# Altium schematic symbol library LQP03TN47NH02D.SchLib: 1 symbol
Pins are listed as number, name and electrical type; pins without a type are passive.

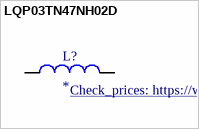
[diagram p0: symbol LQP03TN47NH02D]

## LQP03TN47NH02D
designator L?
Inductor with Inductance: 47nH Tol. +/-3%, Package: 0201 (0603); MP: LQP03TN47NH02D; MF: Murata; Purchase-URL: https://pricing.snapeda.com/search/part/LQP03TN47NH02D/?ref=eda; Package: 0603 Murata; SnapEDA_Link: https://www.snapeda.com/parts/LQP03TN47NH02D/Murata%20Electronics%20North%20America/view-part/1506104/?ref=snap; Value: *; Digi-Key_Part_Number: 490-9594-1-ND; Check_prices: https://www.snapeda.com/parts/LQP03TN47NH02D/Murata%20Electronics%20North%20America/view-part/1506104/?ref=eda
footprint INDC0603X33N
pins: 1, 2